# EAGLE library part SI1563EDH (library work)
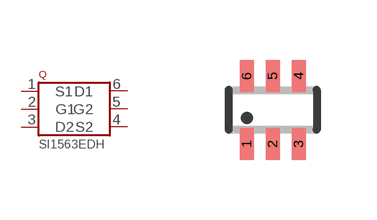
[diagram p20: symbol with the pads of SC-70-6; footprint SC-70-6]

Designator prefix Q

## SI1563EDH  [SC-70-6]
1  S1
2  G1
3  D2
4  S2
5  G2
6  D1

## Footprint SC-70-6 (pad centres in mm)
smd 0.35 x 0.8: 1 -0.65,-0.85; 2 0,-0.85; 3 0.65,-0.85; 4 0.65,0.85; 5 0,0.85; 6 -0.65,0.85